# EAGLE library part BUZA_DR (library ブザードライバ)
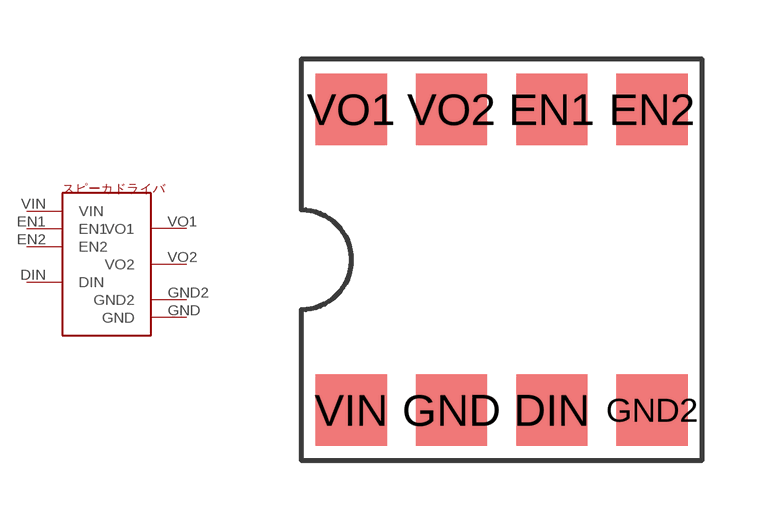
[diagram p0: symbol with the pads of BUZA_DR; footprint BUZA_DR]

Designator prefix -

## BUZA_DR  [BUZA_DR]
DIN  DIN
EN1  EN1
EN2  EN2
GND  GND
GND2  GND2
VIN  VIN
VO1  VO1
VO2  VO2

## Footprint BUZA_DR (pad centres in mm)
smd 1.8 x 1.8: DIN 5.08,0; EN1 5.08,7.62; EN2 7.62,7.62; GND 2.54,0; GND2 7.62,0; VIN 0,0; VO1 0,7.62; VO2 2.54,7.62